# Altium footprint library SOIC127P594X363-8N.PcbLib: 1 footprints
Each footprint in its own frame and in the unit in brackets; x right, y up, seen from the top. Pads: shape width x height; smd on the part's side, far side on the other; paste and mask are expansions set on the pad; w line width, h text height; cw(c..) or ccw(c..) is an arc to the next point about the centre after c.
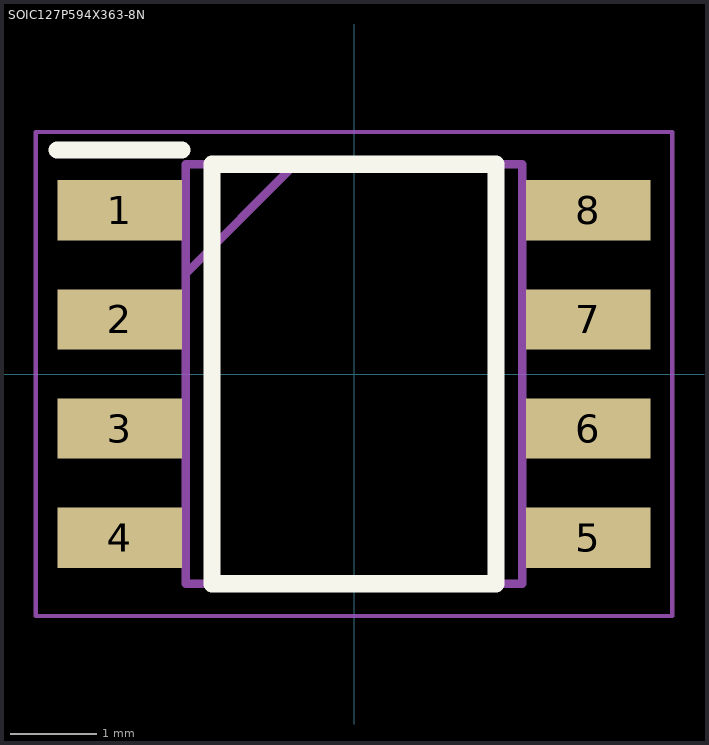
[diagram p0: the footprint, top view; thin cyan lines are the x and y axes]

## SOIC127P594X363-8N [mm]
pads (8):
  rect 1.45x0.7 smd: 1(-2.725,1.905) 2(-2.725,0.635) 3(-2.725,-0.635) 4(-2.725,-1.905) 5(2.725,-1.905) 6(2.725,-0.635) 7(2.725,0.635) 8(2.725,1.905)
Top Overlay:
  lines w0.2: -3.45,2.605 -2,2.605 ; -1.65,-2.44 -1.65,2.44 1.65,2.44 1.65,-2.44 -1.65,-2.44
Mechanical 15:
  lines w0.1: -1.955,1.17 -0.685,2.44 ; -1.955,-2.44 -1.955,2.44 1.955,2.44 1.955,-2.44 -1.955,-2.44
Mechanical 20:
  lines w0.05: -3.7,-2.815 -3.7,2.815 3.7,2.815 3.7,-2.815 -3.7,-2.815